# EAGLE library part USB_6 (library MDB_HOME)
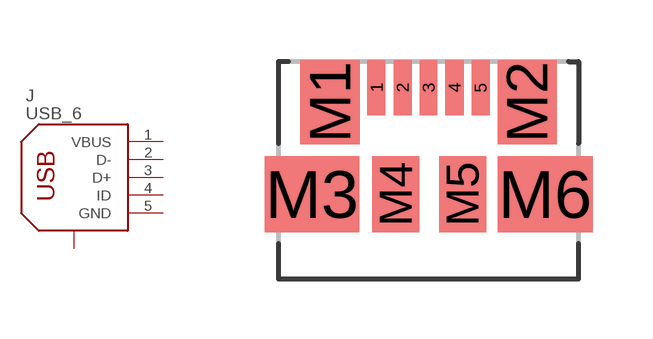
[diagram p27: symbol with the pads of MOLEX_47346-0001; footprint MOLEX_47346-0001]

Designator prefix J

## USB_6 (MPN: 47346-0001; OC_FARNELL: 1568026; OC_NEWARK: 47M0505; PACKAGE: 5 POS MICRO USB R/A; SUPPLIER: MOLEX)  [MOLEX_47346-0001]
1  VBUS  pwr
2  D-
3  D+
4  ID  in
5  GND  sup
M1  SHIELD  sup
M2  SHIELD  sup
M3  SHIELD  sup
M4  SHIELD  sup
M5  SHIELD  sup
M6  SHIELD  sup

## Footprint MOLEX_47346-0001 (pad centres in mm)
MICRO USB R/A-473460001
smd 0.45 x 1.38: 1 -1.3,0; 2 -0.65,0; 3 0,0; 4 0.65,0; 5 1.3,0
smd 1.475 x 2.1: M1 -2.462,-0.36; M2 2.462,-0.36
smd 2.375 x 1.9: M3 -2.913,-2.66; M6 2.913,-2.66
smd 1.175 x 1.9: M4 -0.82,-2.66; M5 0.85,-2.66